# Altium integrated library 1N5822.IntLib: 1 symbol
Pins are listed as number, name and electrical type; pins without a type are passive.

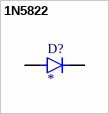
[diagram p0: symbol 1N5822]

## 1N5822
designator D?
3A, 40V, Planar Schottky; MF: Taiwan Semiconductor; MP: 1N5822; SnapEDA_Link: https://www.snapeda.com/parts/1N5822/taiwan/view-part/?ref=snap; Package: DO-201AD Taiwan Semiconductor; Value: *; Check_prices: https://www.snapeda.com/parts/1N5822/taiwan/view-part/?ref=eda
footprint DIOAD1990W125L900D530
pins: A, C K